# Altium schematic symbol library Crystal.SchLib: 7 symbols
Pins are listed as number, name and electrical type; pins without a type are passive.

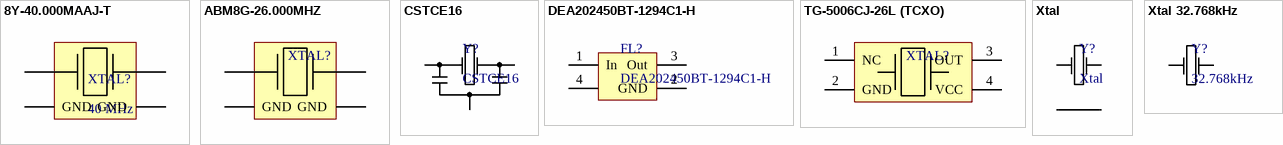
[diagram p0: symbols 8Y-40.000MAAJ-T to Xtal 32.768kHz]

## 8Y-40.000MAAJ-T
designator XTAL?, comment 40 MHz
Resonator 8Y-40.000MAAJ-T 18pF 40MHz 30ppm
footprint 8Y-40.000MAAJ-T
pins: 1, 2 GND, 3, 4 GND

## ABM8G-26.000MHZ
designator XTAL?, comment Quartz  (value not drawn)
Resonator ABM8G-26.000MHZ-18-D2Y-T
footprint ABM8G-26.000MHZ
pins: 1, 2 GND, 3, 4 GND

## CSTCE16
designator Y?
Resonator ceramic
footprint CSTCE16
pins: 1 X1, 2 GND, 3 X2

## DEA202450BT-1294C1-H
designator FL?
DEA202450BT-1294C1-H 2.4GHz filter
footprint DEA202450BT-1294C1-H (2.4GHz filter)
pins: 1 In, 2 GND, 3 Out, 4 GND

## TG-5006CJ-26L (TCXO)
designator XTAL?, comment Quartz  (value not drawn)
Resonator TG-5006CJ-26L (EPSON X1G0041310017)
footprint TG-5006CJ-26L (TCXO)
pins: 1 NC, 2 GND, 3 OUT, 4 VCC

## Xtal
designator Y?
Quartz crystal
footprint Xtal 0705
footprint Xtal 0532
footprint FT13A (Quartz crystal FT13A package)
footprint XTAL 2016 (KX-5)
pins: 1 GND, 2 X1, 3 GND, 4 X2

## Xtal 32.768kHz
designator Y?, comment 32.768kHz
Quartz crystal
footprint HC-2.0x6.2
footprint HC-2.0x6.2H
footprint ABS07 (Quartz ABS07 package)
pins: 1, 2